# Altium schematic symbol library BL8555-28PRA.SchLib: 1 symbol
Pins are listed as number, name and electrical type; pins without a type are passive.

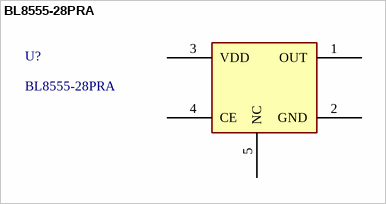
[diagram p0: symbol BL8555-28PRA]

## BL8555-28PRA
designator U?
BL8555-28PRA   2.8 V regulator; MF: Analog Devices; MP: LT1722CS5#TRMPBF; SnapEDA_Link: https://www.snapeda.com/parts/LT1722CS5%23TRMPBF/Analog+Devices/view-part/?ref=snap; Package: SOT-5 Analog Devices; Value: *; Check_prices: https://www.snapeda.com/parts/LT1722CS5%23TRMPBF/Analog+Devices/view-part/?ref=eda
footprint TSOT-23_S5
pins: 1 OUT, 2 GND, 3 VDD, 4 CE, 5 NC